# Altium footprint library RES_1206.PcbLib: 1 footprints
Each footprint in its own frame and in the unit in brackets; x right, y up, seen from the top. Pads: shape width x height; smd on the part's side, far side on the other; paste and mask are expansions set on the pad; w line width, h text height; cw(c..) or ccw(c..) is an arc to the next point about the centre after c.
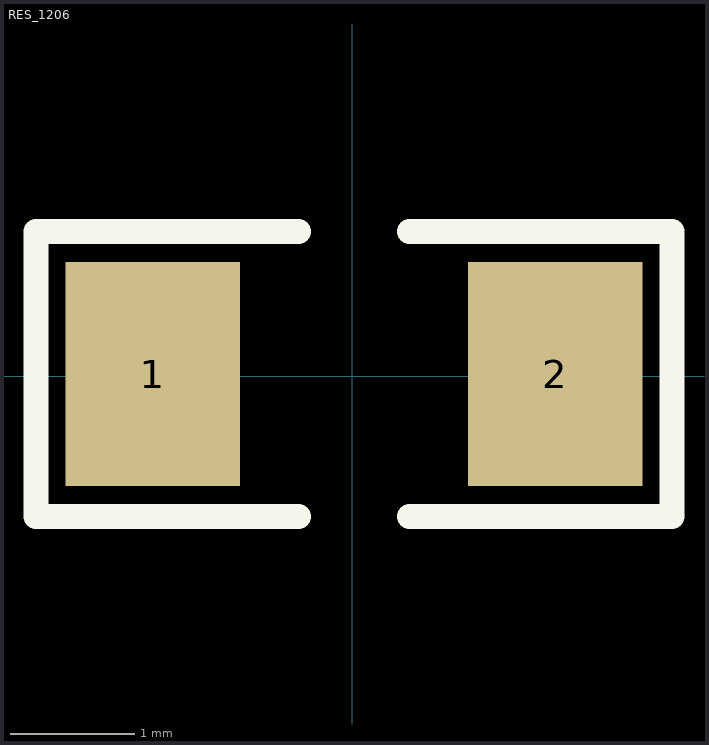
[diagram p0: the footprint, top view; thin cyan lines are the x and y axes]

## RES_1206 [mm]
pads (2):
  rect 1.4x1.8 smd: 1(-1.597,0.016) 2(1.628,0.016)
Top Overlay:
  lines w0.2: -0.429,-1.127 -2.537,-1.127 -2.537,1.159 -0.429,1.159 ; 0.46,-1.127 2.568,-1.127 2.568,1.159 0.46,1.159
3D body "RES_1206.STEP": height 0.6, standoff 0, extent -1.597,-0.784 1.603,0.816